# Altium schematic symbol library Schlib1.SchLib: 1 symbol
Pins are listed as number, name and electrical type; pins without a type are passive.

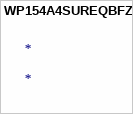
[diagram p0: symbol WP154A4SUREQBFZGC]

## WP154A4SUREQBFZGC
designator *
Triple Color LED, Hyr-gre-blu, Water Clear, T-1 3/4, 5mm; Manufacturer: Kingbright; Manufacturer Part Number: WP154A4SUREQBFZGC; Shape: Round; Forward Current: 30mA; Channels: 1; T-code: T-1 3/4; Viewing Angle: 50°; Additional Feature: HIGH RELIABILITY; Overall Height: 8.6mm; Supplier: Sager Electronics; Supplier Part Number: WP154A4SUREQBFZGC; RoHS: Yes; Category: LEDs; Stock: 4712; Pricing: 1=0.7333, 100=0.7222, 250=0.6908, 500=0.6807, 1000=0.6414, 2500=0.6272, 5000=0.6111 (USD); Mounting Technology: Radial; Pins: 4; Min Operating Temperature: -40°C; Max Operating Temperature: 85°C; Optoelectronic Device Type: TRIPLE COLOR LED; Packaging: Bag; Lens Style: WATER CLEAR; Size: 5mm; Reach SVHC Compliant: Yes; RoHS Compliant: Yes; ComponentLink1URL: https://datasheet.ciiva.com:443/pdfs/VipMasterIC/IC/KBEC/KBEC-S-A0009186840/KBEC-S-A0009186840-1.pdf?src-supplier=IHS+Markit; ComponentLink1Description: https://datasheet.ciiva.com:443/pdfs/VipMasterIC/IC/KBEC/KBEC-S-A0009186840/KBEC-S-A0009186840-1.pdf?src-supplier=IHS+Markit; ComponentLink2URL: https://datasheet.ciiva.com/13501/wp154a4sureqbfzgc-194997-13501708.pdf?src-supplier=Mouser; ComponentLink2Description: https://datasheet.ciiva.com/13501/wp154a4sureqbfzgc-194997-13501708.pdf?src-supplier=Mouser; ComponentLink3URL: https://datasheet.ciiva.com/6349/wp154a4sureqbfzgc-6349426.pdf?src-supplier=Digi-Key; ComponentLink3Description: https://datasheet.ciiva.com/6349/wp154a4sureqbfzgc-6349426.pdf?src-supplier=Digi-Key